# EAGLE library part 1/8"JACK/STEREO/SWITCHED (library audioint)
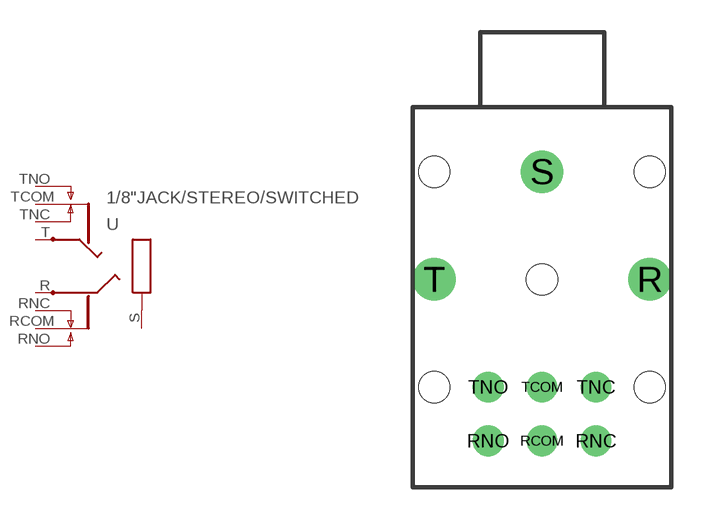
[diagram p14: symbol with the pads of 1/8"JACK/STEREO; footprint 1/8"JACK/STEREO]

Designator prefix -

## 1/8"JACK/STEREO/SWITCHED  [1/8"JACK/STEREO]
R  R  pas
RCOM  RCOM  pas
RNC  RNC  pas
RNO  RNO  pas
S  S  pas
T  T  pas
TCOM  TCOM  pas
TNC  TNC  pas
TNO  TNO  pas

## Footprint 1/8"JACK/STEREO (pad centres in mm)
drill 1.245 pad 1.981 round: R 5,-8; S 0,-3; T -5,-8
drill 0.813 pad 1.422 round: RCOM 0,-15.5; RNC 2.5,-15.5; RNO -2.5,-15.5; TCOM 0,-13; TNC 2.5,-13; TNO -2.5,-13
hole 1.448 at -5,-3
hole 1.448 at 5,-3
hole 1.448 at 0,-8
hole 1.448 at -5,-13
hole 1.448 at 5,-13